# Altium footprint library APS_00.PcbLib: 21 footprints (part 1 of 2)
Each footprint in its own frame and in the unit in brackets; x right, y up, seen from the top. Pads: shape width x height; smd on the part's side, far side on the other; paste and mask are expansions set on the pad; w line width, h text height; cw(c..) or ccw(c..) is an arc to the next point about the centre after c.
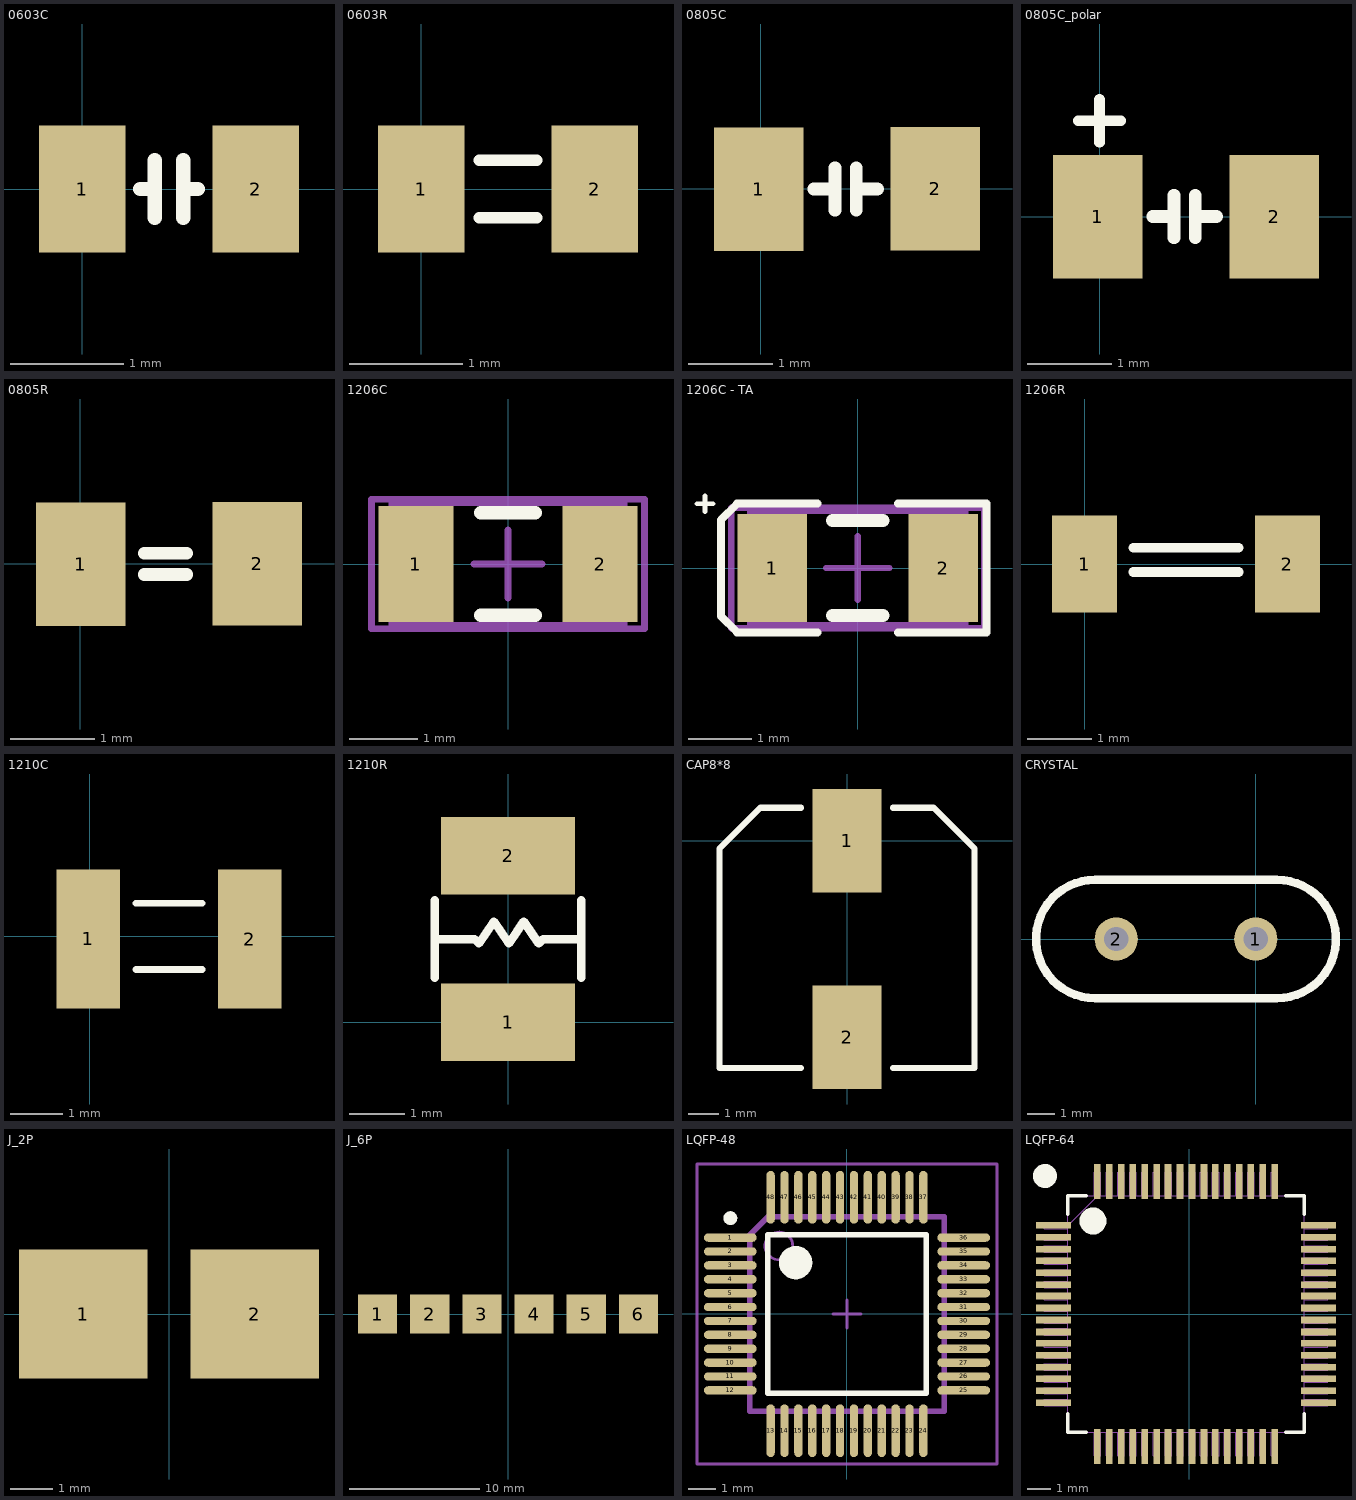
[diagram p0: the footprints below, top view; thin cyan lines are the x and y axes]

## 0603C [mil]
pads (2):
  rect 30x44 smd: 1(0,0) 2(60,0)
Top Overlay:
  lines w5: 20,0 25,0 ; 25,-10 25,10 ; 35,-10 35,10 ; 35,0 40,0
3D body "CircuitWorks-CAPACITOR 0603.STEP": height 34.93, standoff 1.07, extent -1.49,-16.17 61.5,17.69

## 0603R [mil]
pads (2):
  rect 30x44 smd: 1(0,0) 2(60,0)
Top Overlay:
  lines w4: 20,-10 40,-10 ; 20,10 40,10
3D body "CircuitWorks-RESISTOR 0603.STEP": height 18.9, standoff -1.18, extent -1.49,-16.92 61.5,16.93

## 0805C [mil]
height 759.84
pads (2):
  rect 42x58 smd: 1(-0.85,-0.08) 2(82.15,0)
Top Overlay:
  lines w6: 25,0 35,0 ; 35,-10 35,10 ; 45,-10 45,10 ; 45,0 55,0
3D body "0805_C.step": height 36.22, standoff 0, extent 2.43,-25.21 81.57,24

## 0805C_polar [mil]
height 759.84
pads (2):
  rect 42x58 smd: 1(-0.85,-0.08) 2(82.15,0)
Top Overlay:
  lines w5: -10,45 10,45 ; 0,35 0,55
  lines w6: 25,0 35,0 ; 35,-10 35,10 ; 45,-10 45,10 ; 45,0 55,0
3D body "0805_C.step": height 36.22, standoff 0, extent 2.43,-25.21 81.57,24

## 0805R [mil]
height 759.84
pads (2):
  rect 42x58 smd: 1(0.15,-0.08) 2(83.15,0)
Top Overlay:
  lines w6: 30,-5 50,-5 ; 30,5 50,5
3D body "R0805.STEP": height 21.65, standoff 0, extent 3.63,-24.8 82.37,24.81

## 1206C [mm] "Chip Capacitor, Body 3.2x1.6mm, IPC High Density"
height 1.3
pads (2):
  rect 1.1x1.7 smd: 1(-1.35,0) 2(1.35,0)
Top Overlay:
  lines w0.2: -0.4,-0.75 0.4,-0.75 ; -0.4,0.75 0.4,0.75
Mechanical 13:
  lines w0.1: -1.7,-0.9 1.7,-0.9 1.7,0.9 -1.7,0.9 -1.7,-0.9
Mechanical 15:
  lines w0.1: -0.5,0 0.5,0 ; 0,-0.5 0,0.5 ; -2,-0.95 2,-0.95 2,0.95 -2,0.95 -2,-0.95
3D body "CircuitWorks-CAPACITOR 1206.STEP": height 1.53, standoff -0.03, extent -1.6,-0.83 1.6,0.83

## 1206C - TA [mm] "Chip Capacitor, Body 3.2x1.6mm, IPC High Density"
height 1.3
pads (2):
  rect 1.1x1.7 smd: 1(-1.35,0) 2(1.35,0)
Top Overlay:
  lines w0.076: -2.54,1.016 -2.286,1.016 ; -2.413,0.889 -2.413,1.143
  lines w0.127: -0.635,-1.016 -1.905,-1.016 -2.159,-0.762 -2.159,0.762 -1.905,1.016 -0.635,1.016 ; 0.635,-1.016 2.032,-1.016 2.032,1.016 0.635,1.016
  lines w0.2: -0.4,-0.75 0.4,-0.75 ; -0.4,0.75 0.4,0.75
Mechanical 13:
  lines w0.1: -1.7,-0.9 1.7,-0.9 1.7,0.9 -1.7,0.9 -1.7,-0.9
Mechanical 15:
  lines w0.1: -0.5,0 0.5,0 ; 0,-0.5 0,0.5 ; -2,-0.95 2,-0.95 2,0.95 -2,0.95 -2,-0.95
3D body "CircuitWorks-CAPACITOR 1206.STEP": height 1.53, standoff -0.03, extent -1.6,-0.83 1.6,0.83

## 1206R [mil]
height 759.84
pads (2):
  rect 40x60 smd: 1(0,0) 2(125,0)
Top Overlay:
  lines w6: 30,-5 95,-5 ; 30,10 95,10
3D body "CircuitWorks-RESISTOR 1206.STEP": height 20.87, standoff -1.18, extent 0.01,-32.68 126,32.68

## 1210C [mil]
height 759.84
pads (2):
  rect 48x105 smd: 1(-1.08,-1.85) 2(120.97,-2)
Top Overlay:
  lines w5: 35,-25 85,-25 ; 35,25 85,25
3D body "1210_C.step": height 37.01, standoff 0, extent -1.68,-51.21 124.3,47.21

## 1210R [mil]
height 759.84
pads (2):
  rect 95x55 smd: 1(0,0.03) 2(0,118.03)
Top Overlay:
  lines w6: -51.88,31.46 -51.88,58.96 ; -51.88,59.17 -51.88,86.67 ; -50.67,58.96 -23.8,58.96 -20.68,55.83 -10.05,71.46 0.57,55.83 11.2,71.46 21.82,55.83 ; 21.88,55.83 25,58.96 49.79,58.96 ; 51.88,31.46 51.88,58.96 ; 51.88,59.17 51.88,86.67
3D body "User Library-res1210.STEP": height 24.79, standoff 0, extent -53.03,-25.16 53.27,140.2

## CAP8*8 [mil]
pads (2):
  rect 90x135 smd: 1(0.1,0.33) 2(0,-256.2)
Top Overlay:
  lines w8: -60,-296.25 -166.25,-296.25 -166.25,-9.79 -113.12,43.33 -60,43.33 ; 60,-296.25 166.25,-296.25 166.25,-9.79 113.12,43.33 60,43.33
3D body "User Library-AL_EL_cap_8mmx10mm.STEP": height 405.55, standoff -7.87, extent -164.64,-315.95 170,65.95

## CRYSTAL [mil]
height 759.84
pads (2):
  round 62 hole 35: 1(0,0) 2(-200,0)
Top Overlay:
  lines w12: -230,-85 cw(c-230,0) -230,85 30,85 cw(c30,0) 30,-85 -230,-85

## J_2P [mm]
pads (2):
  rect 3x3 smd: 1(-2,0) 2(2,0)

## J_6P [mm]
pads (6):
  rect 3x3 smd: 1(-10,0) 2(-6,0) 3(-2,0) 4(2,0) 5(6,0) 6(10,0)

## LQFP-48 [mm] "TSQFP, 48-Leads, Body 9,0x9,0mm (max), Pitch 0,50mm, IPC Medium Density"
height 1.2
pads (48):
  oval 1.9x0.3 smd: 1(-4.2,2.75) 2(-4.2,2.25) 3(-4.2,1.75) 4(-4.2,1.25) 5(-4.2,0.75) 6(-4.2,0.25) 7(-4.2,-0.25) 8(-4.2,-0.75) 9(-4.2,-1.25) 10(-4.2,-1.75) 11(-4.2,-2.25) 12(-4.2,-2.75) 25(4.2,-2.75) 26(4.2,-2.25) 27(4.2,-1.75) 28(4.2,-1.25) 29(4.2,-0.75) 30(4.2,-0.25) 31(4.2,0.25) 32(4.2,0.75) 33(4.2,1.25) 34(4.2,1.75) 35(4.2,2.25) 36(4.2,2.75)
  oval 0.3x1.9 smd: 13(-2.75,-4.2) 14(-2.25,-4.2) 15(-1.75,-4.2) 16(-1.25,-4.2) 17(-0.75,-4.2) 18(-0.25,-4.2) 19(0.25,-4.2) 20(0.75,-4.2) 21(1.25,-4.2) 22(1.75,-4.2) 23(2.25,-4.2) 24(2.75,-4.2) 37(2.75,4.2) 38(2.25,4.2) 39(1.75,4.2) 40(1.25,4.2) 41(0.75,4.2) 42(0.25,4.2) 43(-0.25,4.2) 44(-0.75,4.2) 45(-1.25,4.2) 46(-1.75,4.2) 47(-2.25,4.2) 48(-2.75,4.2)
Top Overlay:
  circle w0.6: c-1.85,1.85 r0.3
  circle w0.25: c-4.2,3.45 r0.125
  lines w0.2: -2.85,-2.85 2.85,-2.85 2.85,2.85 -2.85,2.85 -2.85,-2.85
Mechanical 13:
  circle w0.1: c-2.45,2.45 r0.5
  lines w0.2: -3.5,-3.5 -3.5,2.85 -2.85,3.5 3.5,3.5 3.5,-3.5 -3.5,-3.5
Mechanical 15:
  lines w0.1: -0.5,0 0.5,0 ; 0,-0.5 0,0.5 ; -5.4,-5.4 5.4,-5.4 5.4,5.4 -5.4,5.4 -5.4,-5.4
3D body "LQFP48.step": height 1.5, standoff 0, extent -4.5,-4.5 4.5,4.5

## LQFP-64 [mil]
pads (64):
  rect 58x11 smd: 1(-226,148) 2(-226,128) 3(-226,108) 4(-226,89) 5(-226,69) 6(-226,49) 7(-226,30) 8(-226,10) 9(-226,-10) 10(-226,-30) 11(-226,-49) 12(-226,-69) 13(-226,-89) 14(-226,-108) 15(-226,-128) 16(-226,-148) 33(216,-148) 34(216,-128) 35(216,-108) 36(216,-89) 37(216,-69) 38(216,-49) 39(216,-30) 40(216,-10) 41(216,10) 42(216,30) 43(216,49) 44(216,69) 45(216,89) 46(216,108) 47(216,128) 48(216,148)
  rect 11x58 smd: 17(-153,-221) 18(-133,-221) 19(-113,-221) 20(-94,-221) 21(-74,-221) 22(-54,-221) 23(-35,-221) 24(-15,-221) 25(5,-221) 26(25,-221) 27(44,-221) 28(64,-221) 29(84,-221) 30(103,-221) 31(123,-221) 32(143,-221) 49(143,221) 50(123,221) 51(103,221) 52(84,221) 53(64,221) 54(44,221) 55(25,221) 56(5,221) 57(-15,221) 58(-35,221) 59(-54,221) 60(-74,221) 61(-94,221) 62(-113,221) 63(-133,221) 64(-153,221)
Top Overlay:
  circle w20: c-240,230 r10
  circle w25: c-160,155 r10
  lines w6: -202,-166 -202,-197 -171,-197 ; -202,166 -202,197 -171,197 ; 161,-197 192,-197 192,-166 ; 161,197 192,197 192,166
Mechanical 4:
  drawing of 662 lines, arcs and shapes, not listed
3D body "User Library-LQFP-64-1.step": height 59.06, standoff 0, extent -241.22,-236.22 231.22,236.23